# EAGLE library part FT232RL (library FT232RL)
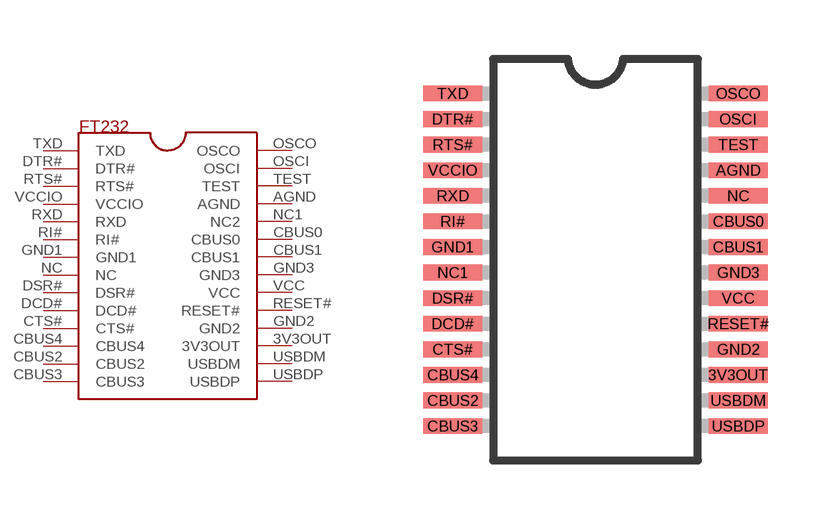
[diagram p0: symbol with the pads of FT232RL; footprint FT232RL]

Designator prefix -

## FT232RL  [FT232RL]
3V3OUT  3V3OUT
AGND  AGND
CBUS0  CBUS0
CBUS1  CBUS1
CBUS2  CBUS2
CBUS3  CBUS3
CBUS4  CBUS4
CTS#  CTS#
DCD#  DCD#
DSR#  DSR#
DTR#  DTR#
GND1  GND1
GND2  GND2
GND3  GND3
NC  NC
NC1  NC2
OSCI  OSCI
OSCO  OSCO
RESET#  RESET#
RI#  RI#
RTS#  RTS#
RXD  RXD
TEST  TEST
TXD  TXD
USBDM  USBDM
USBDP  USBDP
VCC  VCC
VCCIO  VCCIO

## Footprint FT232RL (pad centres in mm)
smd 1.5 x 0.4: 3V3OUT 3.625,-2.925; AGND 3.625,2.275; CBUS0 3.625,0.975; CBUS1 3.625,0.325; CBUS2 -3.625,-3.575; CBUS3 -3.625,-4.225; CBUS4 -3.625,-2.925; CTS# -3.625,-2.275; DCD# -3.625,-1.625; DSR# -3.625,-0.975; DTR# -3.625,3.575; GND1 -3.625,0.325; GND2 3.625,-2.275; GND3 3.625,-0.325; NC 3.625,1.625; NC1 -3.625,-0.325; OSCI 3.625,3.575; OSCO 3.625,4.225; RESET# 3.625,-1.625; RI# -3.625,0.975; RTS# -3.625,2.925; RXD -3.625,1.625; TEST 3.625,2.925; TXD -3.625,4.225; USBDM 3.625,-3.575; USBDP 3.625,-4.225; VCC 3.625,-0.975; VCCIO -3.625,2.275